# Altium schematic symbol library ANT_PCB_CC1350_433.Schlib: 1 symbol
Pins are listed as number, name and electrical type; pins without a type are passive.

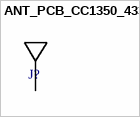
[diagram p0: symbol ANT_PCB_CC1350_433]

## ANT_PCB_CC1350_433
designator J?  (value not drawn)  (no BOM)
pins: 1